# Altium schematic symbol library PESD5V0V1BA.Schlib: 1 symbol
Pins are listed as number, name and electrical type; pins without a type are passive.

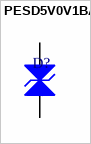
[diagram p0: symbol PESD5V0V1BA]

## PESD5V0V1BA
designator D?
ESD Suppressors / TVS Diodes 5V BIDIRECTION ESD
pins: 1 K, 2 K
1 alternate drawing of the same symbol